# Altium footprint library LARS_409_SWITCH.PCBLIB: 8 footprints
Each footprint in its own frame and in the unit in brackets; x right, y up, seen from the top. Pads: shape width x height; smd on the part's side, far side on the other; paste and mask are expansions set on the pad; w line width, h text height; cw(c..) or ccw(c..) is an arc to the next point about the centre after c.
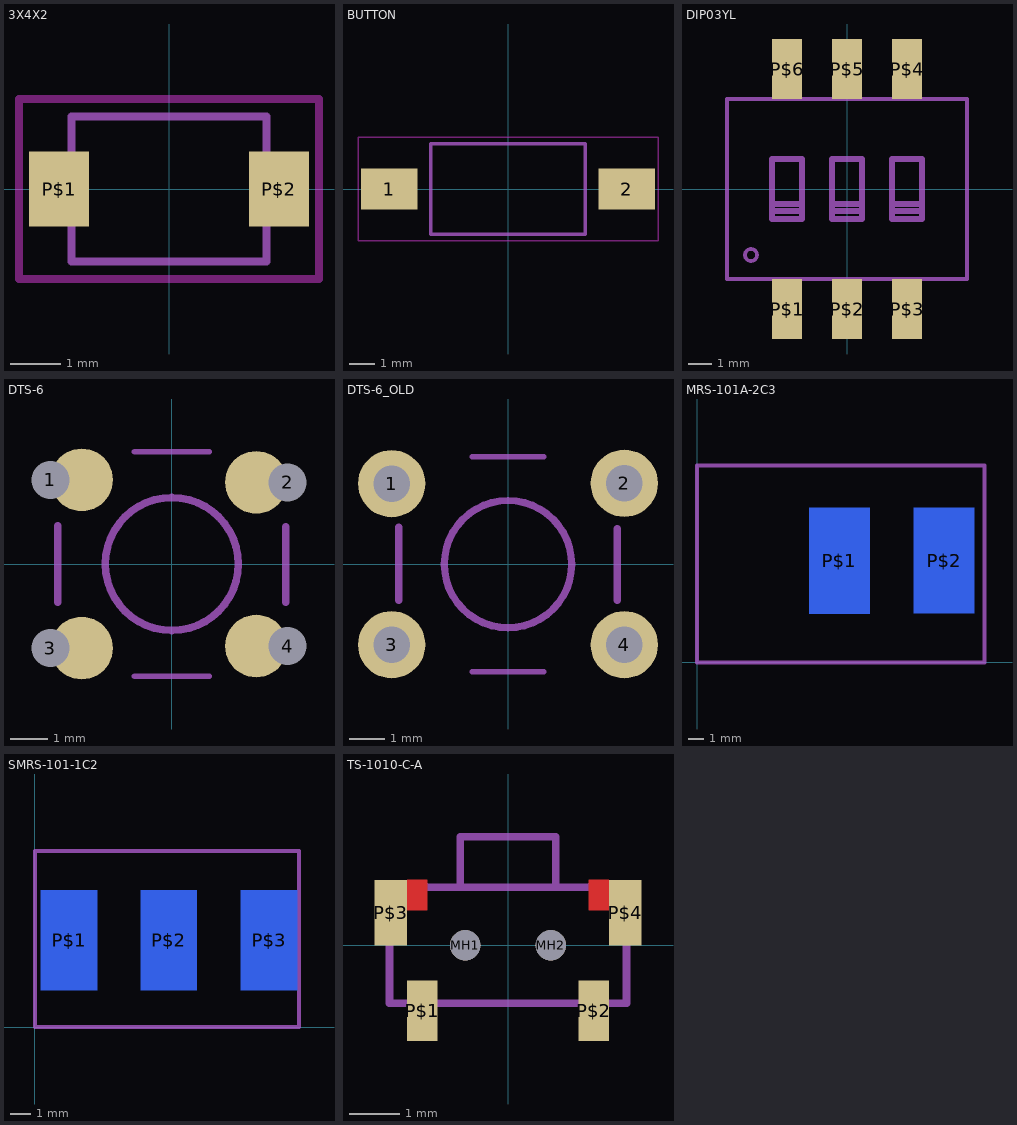
[diagram p0: the footprints below, top view; thin cyan lines are the x and y axes]

## 3X4X2 [mil]
pads (2):
  rect 47.24x59.06 smd: P$1(-86.61,0) P$2(86.61,0)
Top keep-out:
  lines w6: -118.11,-70.87 118.11,-70.87 118.11,70.87 -118.11,70.87 -118.11,-70.87
tPlace:
  lines w6: -76.77,-57.09 76.77,-57.09 76.77,57.09 -76.77,57.09 -76.77,-57.09
3D body "User Library-EVQ-P2-H02B_K02Q+3P202K.step": height 98.46, standoff 0.04, extent -108.52,-68.73 108.02,69.06

## BUTTON [mil]
pads (2):
  rect 85.83x62.99 smd: 1(-181.1,0) 2(181.1,0)
Top keep-out:
  lines w1.97: -228.94,-78.74 228.94,-78.74 228.94,78.74 -228.94,78.74 -228.94,-78.74
tDocu:
  lines w5: -118.11,-68.9 118.11,-68.9 118.11,68.9 -118.11,68.9 -118.11,-68.9
tPlace:
  lines w5: -118.11,-68.9 118.11,-68.9 118.11,68.9 -118.11,68.9 -118.11,-68.9

## DIP03YL [mil]
pads (6):
  rect 50x100 smd: P$1(-100,-200) P$2(0,-200) P$3(100,-200) P$4(100,200) P$5(0,200) P$6(-100,200)
tDocu:
  lines w6: -130,-150 -70,-150 ; -130,150 -70,150 ; -30,-150 30,-150 ; -30,150 30,150 ; 70,-150 130,-150 ; 70,150 130,150
  text "1" at -115,-120 h77.5
  text "2" at -15,-120 h77.5
  text "3" at 85,-120 h77.5
  text "ON" at -115,67 h77.5
tPlace:
  circle w6: c-160,-110 r10
  lines w6: -130,-150 -200,-150 -200,150 -130,150 ; -70,-150 -30,-150 ; -70,150 -30,150 ; 30,-150 70,-150 ; 30,150 70,150 ; 130,-150 200,-150 200,150 130,150
  lines w10: -125,-37 -75,-37 ; -125,-37 -125,-50 -75,-50 -75,-37 ; -125,-37 -125,-25 ; -125,-25 -125,50 -75,50 -75,-25 ; -125,-25 -75,-25 ; -75,-37 -75,-25 ; -25,-37 25,-37 ; -25,-37 -25,-50 25,-50 25,-37 ; -25,-37 -25,-25 ; -25,-25 -25,50 25,50 25,-25 ; -25,-25 25,-25 ; 25,-37 25,-25 ; 75,-37 125,-37 ; 75,-37 75,-50 125,-50 125,-37 ; 75,-37 75,-25 ; 75,-25 75,50 125,50 125,-25 ; 75,-25 125,-25 ; 125,-37 125,-25

## DTS-6 [mil]
pads (4):
  round 66 hole 40 copper offset 33,0: 1(-127.95,88.58) 3(-127.95,-88.58)
  round 66 hole 40 copper offset -33,0: 2(122.05,86.02) 4(122.05,-86.42)
tPlace:
  circle w8: c0,0 r70
  lines w6: -39.37,-118.11 39.37,-118.11 ; -39.37,118.11 39.37,118.11
  lines w8: -120,-40 -120,40.47 ; 120,-40 120,39.29

## DTS-6_OLD [mil]
pads (4):
  round 74 hole 40: 1(-127.95,88.58) 2(127.95,88.98) 3(-127.95,-88.58) 4(127.95,-88.58)
tPlace:
  circle w8: c0,0 r70
  lines w6: -39.37,-118.11 39.37,-118.11 ; -39.37,118.11 39.37,118.11
  lines w8: -120,-40 -120,40.47 ; 120,-40 120,39.29

## MRS-101A-2C3 [mm]
pads (2):
  rect 4x7 smd far side: P$1(9.41,6.71) P$2(16.32,6.73)
Dimension:
  lines w0.076: 8.75,3.65 10.05,3.65 10.05,9.45 8.75,9.45 8.75,3.65 ; 15.71,3.67 17.01,3.67 17.01,9.47 15.71,9.47 15.71,3.67
tPlace:
  lines w0.254: 0,0 19,0 19,13 0,13 0,0

## SMRS-101-1C2 [mm]
pads (3):
  rect 2.8x5 smd far side: P$1(1.7,4.35) P$2(6.69,4.34) P$3(11.7,4.34)
Dimension:
  lines w0.001: 1.2,2.35 1.2,6.5 2.2,6.5 2.2,2.35 1.2,2.35 ; 6.3,2.4 6.3,6.4 7.1,6.4 7.1,2.4 6.3,2.4 ; 11.3,2.4 11.3,6.4 12.1,6.4 12.1,2.4 11.3,2.4
tPlace:
  lines w0.203: 0,0 0,8.8 13.2,8.8 13.2,0 0,0

## TS-1010-C-A [mm]
pads (6):
  round 0.6 hole 0.6 unplated: MH1(-0.85,0) MH2(0.85,0)
  rect 0.6x1.2 smd: P$1(-1.7,-1.3) P$2(1.7,-1.3)
  rect 0.65x1.3 smd: P$3(-2.325,0.65) P$4(2.325,0.65)
Top:
  region: -1.6,0.7 -2,0.7 -2,1.3 -1.6,1.3
  region: 1.6,1.3 1.6,0.7 2,0.7 2,1.3
Top Solder:
  region: -1.53,0.62 -2,0.62 -2,1.4 -1.53,1.4
  region: 1.51,1.4 1.51,0.61 2,0.61 2,1.4
tPlace:
  lines w0.15: -0.95,1.15 -2.35,1.15 -2.35,-1.15 2.35,-1.15 2.35,1.15 0.95,1.15 ; -0.95,1.15 0.95,1.15 ; -0.95,1.15 -0.95,2.15 0,2.15 0.95,2.15 0.95,1.15